# EAGLE library part OPAMP2 (library QuantumOptics)
Op Amp with Null, e.g. LT1226 http://www.linear.com/pc/productDetail.do?navId=H0,C1,C1154,C1009,C1022,P1476
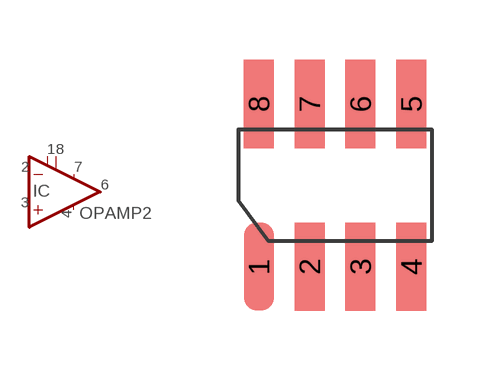
[diagram p79: symbol with the pads of SOIC-8; footprint SOIC-8]

Designator prefix IC

## OPAMP2-SOIC8  [SOIC-8]
1  NULL1  in
2  -IN  in
3  +IN  in
4  V-
6  OUT  out
7  V+
8  NULL2  in

## Footprint SOIC-8 (pad centres in mm)
SOIC-8 (AKA SO-8), pads on 0.050" grid.
smd 0.75 x 2.2: 1 -1.27,-2.032; 2 0,-2.032; 3 1.27,-2.032; 4 2.54,-2.032; 5 2.54,2.032; 6 1.27,2.032; 7 0,2.032; 8 -1.27,2.032